# Altium footprint library Atmel Microcontroller 8-Bit tinyAVR.PcbLib: 52 footprints (part 1 of 4)
Each footprint in its own frame and in the unit in brackets; x right, y up, seen from the top. Pads: shape width x height; smd on the part's side, far side on the other; paste and mask are expansions set on the pad; w line width, h text height; cw(c..) or ccw(c..) is an arc to the next point about the centre after c.
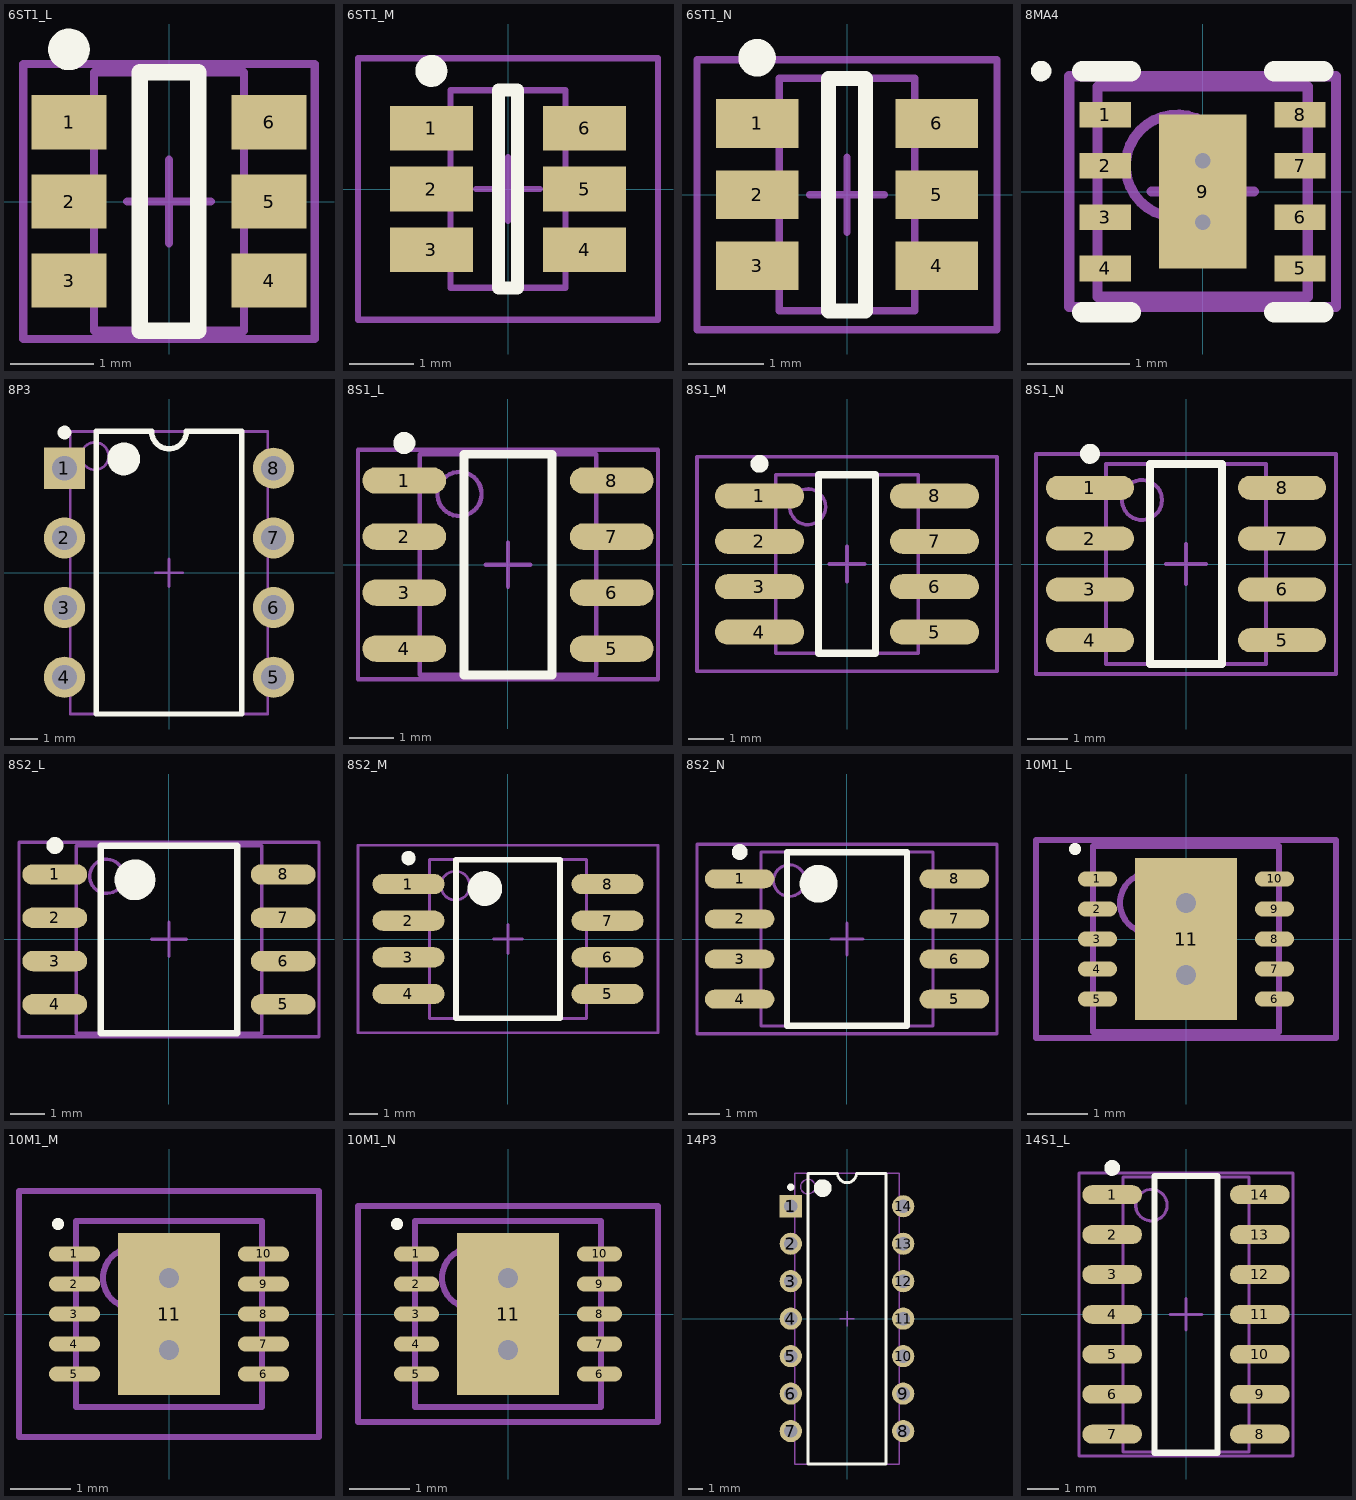
[diagram p0: the footprints below, top view; thin cyan lines are the x and y axes]

## 6ST1_L [mm] "SOT23, 6-Leads, Body 2.9x1.6mm, Pitch 0.95mm, Lead Span 2.7mm, IPC High Density"
height 1.45
pads (6):
  rect 0.9x0.65 smd: 1(-1.2,0.95) 2(-1.2,0) 3(-1.2,-0.95) 4(1.2,-0.95) 5(1.2,0) 6(1.2,0.95)
Top Overlay:
  circle w0.25: c-1.2,1.825 r0.125
  lines w0.2: -0.35,-1.55 -0.35,1.55 0.35,1.55 0.35,-1.55 -0.35,-1.55
Mechanical 13:
  lines w0.1: -0.9,-1.55 0.9,-1.55 0.9,1.55 -0.9,1.55 -0.9,-1.55
Mechanical 15:
  lines w0.1: -0.5,0 0.5,0 ; 0,-0.5 0,0.5 ; -1.75,-1.65 1.75,-1.65 1.75,1.65 -1.75,1.65 -1.75,-1.65
3D body: height 1.45, standoff 0, extent -0.9,-1.55 0.9,1.55

## 6ST1_M [mm] "SOT23, 6-Leads, Body 2.9x1.6mm, Pitch 0.95mm, Lead Span 2.7mm, IPC Low Density"
height 1.45
pads (6):
  rect 1.3x0.7 smd: 1(-1.2,0.95) 2(-1.2,0) 3(-1.2,-0.95) 4(1.2,-0.95) 5(1.2,0) 6(1.2,0.95)
Top Overlay:
  circle w0.25: c-1.2,1.85 r0.125
  lines w0.2: -0.15,-1.55 -0.15,1.55 0.15,1.55 0.15,-1.55 -0.15,-1.55
Mechanical 13:
  lines w0.1: -0.9,-1.55 0.9,-1.55 0.9,1.55 -0.9,1.55 -0.9,-1.55
Mechanical 15:
  lines w0.1: -0.5,0 0.5,0 ; 0,-0.5 0,0.5 ; -2.35,-2.05 2.35,-2.05 2.35,2.05 -2.35,2.05 -2.35,-2.05
3D body: height 1.45, standoff 0, extent -0.9,-1.55 0.9,1.55

## 6ST1_N [mm] "SOT23, 6-Leads, Body 2.9x1.6mm, Pitch 0.95mm, Lead Span 2.7mm, IPC Medium Density"
height 1.45
pads (6):
  rect 1.1x0.65 smd: 1(-1.2,0.95) 2(-1.2,0) 3(-1.2,-0.95) 4(1.2,-0.95) 5(1.2,0) 6(1.2,0.95)
Top Overlay:
  circle w0.25: c-1.2,1.825 r0.125
  lines w0.2: -0.25,-1.55 -0.25,1.55 0.25,1.55 0.25,-1.55 -0.25,-1.55
Mechanical 13:
  lines w0.1: -0.9,-1.55 0.9,-1.55 0.9,1.55 -0.9,1.55 -0.9,-1.55
Mechanical 15:
  lines w0.1: -0.5,0 0.5,0 ; 0,-0.5 0,0.5 ; -2,-1.8 2,-1.8 2,1.8 -2,1.8 -2,-1.8
3D body: height 1.45, standoff 0, extent -0.9,-1.55 0.9,1.55

## 8MA4 [mm] "SON, 8-Leads, Body 2x2mm, Pitch 0.5mm"
height 0.6
pads (9):
  rect 0.5x0.25 smd: 1(-0.95,0.75) 2(-0.95,0.25) 3(-0.95,-0.25) 4(-0.95,-0.75) 5(0.95,-0.75) 6(0.95,-0.25) 7(0.95,0.25) 8(0.95,0.75)
  rect 0.85x1.5 smd: 9(0,0)
via 0,-0.3 diameter 0.3 hole 0.152
via 0,0.3 diameter 0.3 hole 0.152
Top Overlay:
  circle w0.1: c-1.575,1.175 r0.05
  lines w0.2: -1.175,-1.175 -0.7,-1.175 ; -1.175,1.175 -0.7,1.175 ; 0.7,-1.175 1.175,-1.175 ; 0.7,1.175 1.175,1.175
Mechanical 13:
  circle w0.1: c-0.25,0.25 r0.5
  lines w0.1: -1.025,-1.025 1.025,-1.025 1.025,1.025 -1.025,1.025 -1.025,-1.025
Mechanical 15:
  lines w0.1: -0.5,0 0.5,0 ; 0,-0.5 0,0.5 ; -1.3,-1.125 1.3,-1.125 1.3,1.125 -1.3,1.125 -1.3,-1.125
3D body: height 0.6, standoff 0, extent -1.024,-1.024 1.024,1.024

## 8P3 [mm] "DIP, 8-Leads, Row Spacing 7.62mm, Pitch 2.54mm, Body 9.59x6.61mm"
height 5.34
pads (8):
  rect 1.5x1.5 hole 0.9: 1(-3.81,3.81)
  round 1.5 hole 0.9: 2(-3.81,1.27) 3(-3.81,-1.27) 4(-3.81,-3.81) 5(3.81,-3.81) 6(3.81,-1.27) 7(3.81,1.27) 8(3.81,3.81)
Top Overlay:
  circle w0.25: c-3.81,5.11 r0.125
  circle w0.6: c-1.65,4.15 r0.3
  lines w0.2: -2.65,-5.15 -2.65,5.15 -0.635,5.15 ccw(c0,5.15) 0.635,5.15 2.65,5.15 2.65,-5.15 -2.65,-5.15
Mechanical 13:
  circle w0.1: c-2.7,4.25 r0.5
  lines w0.1: -3.6,-5.15 -3.6,5.15 3.6,5.15 3.6,-5.15 -3.6,-5.15
Mechanical 15:
  lines w0.1: -0.5,0 0.5,0 ; 0,-0.5 0,0.5
3D body: height 5.34, standoff 0, extent -3.6,-5.15 3.6,5.15

## 8S1_L [mm] "SOIC, 8-Leads, Body 4.9x3.9mm, Pitch 1.27mm, IPC High Density"
height 1.75
pads (8):
  oval 1.9x0.6 smd: 1(-2.35,1.905) 2(-2.35,0.635) 3(-2.35,-0.635) 4(-2.35,-1.905) 5(2.35,-1.905) 6(2.35,-0.635) 7(2.35,0.635) 8(2.35,1.905)
Top Overlay:
  circle w0.25: c-2.35,2.755 r0.125
  lines w0.2: -1,-2.5 1,-2.5 1,2.5 -1,2.5 -1,-2.5
Mechanical 13:
  circle w0.1: c-1.1,1.6 r0.5
  lines w0.1: -2,-2.5 2,-2.5 2,2.5 -2,2.5 -2,-2.5
Mechanical 15:
  lines w0.1: -0.5,0 0.5,0 ; 0,-0.5 0,0.5 ; -3.4,-2.6 3.4,-2.6 3.4,2.6 -3.4,2.6 -3.4,-2.6
3D body: height 1.75, standoff 0, extent -2,-2.5 2,2.5

## 8S1_M [mm] "SOIC, 8-Leads, Body 4.9x3.9mm, Pitch 1.27mm, IPC Low Density"
height 1.75
pads (8):
  oval 2.5x0.7 smd: 1(-2.45,1.905) 2(-2.45,0.635) 3(-2.45,-0.635) 4(-2.45,-1.905) 5(2.45,-1.905) 6(2.45,-0.635) 7(2.45,0.635) 8(2.45,1.905)
Top Overlay:
  circle w0.25: c-2.45,2.805 r0.125
  lines w0.2: -0.8,-2.5 -0.8,2.5 0.8,2.5 0.8,-2.5 -0.8,-2.5
Mechanical 13:
  circle w0.1: c-1.1,1.6 r0.5
  lines w0.1: -2,-2.5 -2,2.5 2,2.5 2,-2.5 -2,-2.5
Mechanical 15:
  lines w0.1: -0.5,0 0.5,0 ; 0,-0.5 0,0.5 ; -4.2,-3 -4.2,3 4.2,3 4.2,-3 -4.2,-3
3D body: height 1.75, standoff 0, extent -2,-2.5 2,2.5

## 8S1_N [mm] "SOIC, 8-Leads, Body 4.9x3.9mm, Pitch 1.27mm, IPC Medium Density"
height 1.75
pads (8):
  oval 2.2x0.6 smd: 1(-2.4,1.905) 2(-2.4,0.635) 3(-2.4,-0.635) 4(-2.4,-1.905) 5(2.4,-1.905) 6(2.4,-0.635) 7(2.4,0.635) 8(2.4,1.905)
Top Overlay:
  circle w0.25: c-2.4,2.755 r0.125
  lines w0.2: -0.9,-2.5 0.9,-2.5 0.9,2.5 -0.9,2.5 -0.9,-2.5
Mechanical 13:
  circle w0.1: c-1.1,1.6 r0.5
  lines w0.1: -2,-2.5 2,-2.5 2,2.5 -2,2.5 -2,-2.5
Mechanical 15:
  lines w0.1: -0.5,0 0.5,0 ; 0,-0.5 0,0.5 ; -3.75,-2.75 3.75,-2.75 3.75,2.75 -3.75,2.75 -3.75,-2.75
3D body: height 1.75, standoff 0, extent -2,-2.5 2,2.5

## 8S2_L [mm] "SOP, 8-Leads, Body 5.3x5.3mm, Pitch 1.27mm, IPC High Density"
height 2.16
pads (8):
  oval 1.9x0.6 smd: 1(-3.35,1.905) 2(-3.35,0.635) 3(-3.35,-0.635) 4(-3.35,-1.905) 5(3.35,-1.905) 6(3.35,-0.635) 7(3.35,0.635) 8(3.35,1.905)
Top Overlay:
  circle w0.6: c-1,1.75 r0.3
  circle w0.25: c-3.35,2.755 r0.125
  lines w0.2: -2,-2.75 2,-2.75 2,2.75 -2,2.75 -2,-2.75
Mechanical 13:
  circle w0.1: c-1.825,1.85 r0.5
  lines w0.1: -2.725,-2.75 2.725,-2.75 2.725,2.75 -2.725,2.75 -2.725,-2.75
Mechanical 15:
  lines w0.1: -0.5,0 0.5,0 ; 0,-0.5 0,0.5 ; -4.4,-2.85 4.4,-2.85 4.4,2.85 -4.4,2.85 -4.4,-2.85
3D body: height 2.16, standoff 0, extent -2.725,-2.75 2.725,2.75

## 8S2_M [mm] "SOP, 8-Leads, Body 5.3x5.3mm, Pitch 1.27mm, IPC Low Density"
height 2.16
pads (8):
  oval 2.5x0.7 smd: 1(-3.45,1.905) 2(-3.45,0.635) 3(-3.45,-0.635) 4(-3.45,-1.905) 5(3.45,-1.905) 6(3.45,-0.635) 7(3.45,0.635) 8(3.45,1.905)
Top Overlay:
  circle w0.25: c-3.45,2.805 r0.125
  circle w0.6: c-0.8,1.75 r0.3
  lines w0.2: -1.8,-2.75 -1.8,2.75 1.8,2.75 1.8,-2.75 -1.8,-2.75
Mechanical 13:
  circle w0.1: c-1.825,1.85 r0.5
  lines w0.1: -2.725,-2.75 -2.725,2.75 2.725,2.75 2.725,-2.75 -2.725,-2.75
Mechanical 15:
  lines w0.1: -0.5,0 0.5,0 ; 0,-0.5 0,0.5 ; -5.2,-3.25 -5.2,3.25 5.2,3.25 5.2,-3.25 -5.2,-3.25
3D body: height 2.16, standoff 0, extent -2.725,-2.75 2.725,2.75

## 8S2_N [mm] "SOP, 8-Leads, Body 5.3x5.3mm, Pitch 1.27mm, IPC Medium Density"
height 2.16
pads (8):
  oval 2.2x0.6 smd: 1(-3.4,1.905) 2(-3.4,0.635) 3(-3.4,-0.635) 4(-3.4,-1.905) 5(3.4,-1.905) 6(3.4,-0.635) 7(3.4,0.635) 8(3.4,1.905)
Top Overlay:
  circle w0.6: c-0.9,1.75 r0.3
  circle w0.25: c-3.4,2.755 r0.125
  lines w0.2: -1.9,-2.75 1.9,-2.75 1.9,2.75 -1.9,2.75 -1.9,-2.75
Mechanical 13:
  circle w0.1: c-1.825,1.85 r0.5
  lines w0.1: -2.725,-2.75 2.725,-2.75 2.725,2.75 -2.725,2.75 -2.725,-2.75
Mechanical 15:
  lines w0.1: -0.5,0 0.5,0 ; 0,-0.5 0,0.5 ; -4.75,-3 4.75,-3 4.75,3 -4.75,3 -4.75,-3
3D body: height 2.16, standoff 0, extent -2.725,-2.75 2.725,2.75

## 10M1_L [mm] "SON, 10-Leads, Body 3x3 mm, Pitch 0.5mm, IPC High Density"
height 1
pads (11):
  oval 0.65x0.25 smd: 1(-1.475,1) 2(-1.475,0.5) 3(-1.475,0) 4(-1.475,-0.5) 5(-1.475,-1) 6(1.475,-1) 7(1.475,-0.5) 8(1.475,0) 9(1.475,0.5) 10(1.475,1)
  rect 1.7x2.7 smd: 11(0,0)
via 0,-0.6 diameter 0.66 hole 0.33
via 0,0.6 diameter 0.66 hole 0.33
Top Overlay:
  circle w0.1: c-1.85,1.5 r0.05
Mechanical 13:
  circle w0.1: c-0.6,0.6 r0.5
  lines w0.1: -1.55,-1.55 -1.55,1.55 1.55,1.55 1.55,-1.55 -1.55,-1.55
Mechanical 15:
  lines w0.1: -0.5,0 0.5,0 ; 0,-0.5 0,0.5 ; -2.5,-1.65 2.5,-1.65 2.5,1.65 -2.5,1.65 -2.5,-1.65
3D body: height 1, standoff 0, extent -1.55,-1.55 1.55,1.55

## 10M1_M [mm] "SON, 10-Leads, Body 3x3 mm, Pitch 0.5mm, IPC Low Density"
height 1
pads (11):
  oval 0.85x0.25 smd: 1(-1.575,1) 2(-1.575,0.5) 3(-1.575,0) 4(-1.575,-0.5) 5(-1.575,-1) 6(1.575,-1) 7(1.575,-0.5) 8(1.575,0) 9(1.575,0.5) 10(1.575,1)
  rect 1.7x2.7 smd: 11(0,0)
via 0,-0.6 diameter 0.66 hole 0.33
via 0,0.6 diameter 0.66 hole 0.33
Top Overlay:
  circle w0.1: c-1.85,1.5 r0.05
Mechanical 13:
  circle w0.1: c-0.6,0.6 r0.5
  lines w0.1: -1.55,-1.55 -1.55,1.55 1.55,1.55 1.55,-1.55 -1.55,-1.55
Mechanical 15:
  lines w0.1: -0.5,0 0.5,0 ; 0,-0.5 0,0.5 ; -2.5,-2.05 2.5,-2.05 2.5,2.05 -2.5,2.05 -2.5,-2.05
3D body: height 1, standoff 0, extent -1.55,-1.55 1.55,1.55

## 10M1_N [mm] "SON, 10-Leads, Body 3x3 mm, Pitch 0.5mm, IPC Medium Density"
height 1
pads (11):
  oval 0.75x0.25 smd: 1(-1.525,1) 2(-1.525,0.5) 3(-1.525,0) 4(-1.525,-0.5) 5(-1.525,-1) 6(1.525,-1) 7(1.525,-0.5) 8(1.525,0) 9(1.525,0.5) 10(1.525,1)
  rect 1.7x2.7 smd: 11(0,0)
via 0,-0.6 diameter 0.66 hole 0.33
via 0,0.6 diameter 0.66 hole 0.33
Top Overlay:
  circle w0.1: c-1.85,1.5 r0.05
Mechanical 13:
  circle w0.1: c-0.6,0.6 r0.5
  lines w0.1: -1.55,-1.55 -1.55,1.55 1.55,1.55 1.55,-1.55 -1.55,-1.55
Mechanical 15:
  lines w0.1: -0.5,0 0.5,0 ; 0,-0.5 0,0.5 ; -2.5,-1.8 2.5,-1.8 2.5,1.8 -2.5,1.8 -2.5,-1.8
3D body: height 1, standoff 0, extent -1.55,-1.55 1.55,1.55

## 14P3 [mm] "DIP, 14-Leads, Row Spacing 7.62mm, Pitch 2.54mm, Body 19.2x6.6mm"
height 5.34
pads (14):
  rect 1.5x1.5 hole 0.9: 1(-3.81,7.62)
  round 1.5 hole 0.9: 2(-3.81,5.08) 3(-3.81,2.54) 4(-3.81,0) 5(-3.81,-2.54) 6(-3.81,-5.08) 7(-3.81,-7.62) 8(3.81,-7.62) 9(3.81,-5.08) 10(3.81,-2.54) 11(3.81,0) 12(3.81,2.54) 13(3.81,5.08) 14(3.81,7.62)
Top Overlay:
  circle w0.6: c-1.65,8.85 r0.3
  circle w0.25: c-3.81,8.92 r0.125
  lines w0.2: -2.65,-9.85 2.65,-9.85 2.65,9.85 0.635,9.85 cw(c0,9.85) -0.635,9.85 -2.65,9.85 -2.65,-9.85
Mechanical 13:
  circle w0.1: c-2.65,8.95 r0.5
  lines w0.1: -3.55,-9.85 3.55,-9.85 3.55,9.85 -3.55,9.85 -3.55,-9.85
Mechanical 15:
  lines w0.1: -0.5,0 0.5,0 ; 0,-0.5 0,0.5
3D body: height 5.34, standoff 0, extent -3.55,-9.85 3.55,9.85

## 14S1_L [mm] "SOIC, 14-Leads, Body 8.7x3.9mm, Pitch 1.27mm, IPC High Density"
height 1.75
pads (14):
  oval 1.9x0.6 smd: 1(-2.35,3.81) 2(-2.35,2.54) 3(-2.35,1.27) 4(-2.35,0) 5(-2.35,-1.27) 6(-2.35,-2.54) 7(-2.35,-3.81) 8(2.35,-3.81) 9(2.35,-2.54) 10(2.35,-1.27) 11(2.35,0) 12(2.35,1.27) 13(2.35,2.54) 14(2.35,3.81)
Top Overlay:
  circle w0.25: c-2.35,4.66 r0.125
  lines w0.2: -1,-4.4 -1,4.4 1,4.4 1,-4.4 -1,-4.4
Mechanical 13:
  circle w0.1: c-1.1,3.475 r0.5
  lines w0.1: -2,-4.375 -2,4.375 2,4.375 2,-4.375 -2,-4.375
Mechanical 15:
  lines w0.1: -0.5,0 0.5,0 ; 0,-0.5 0,0.5 ; -3.4,-4.5 -3.4,4.5 3.4,4.5 3.4,-4.5 -3.4,-4.5
3D body: height 1.75, standoff 0, extent -2,-4.375 2,4.375